# Altium schematic symbol library UWRT.SchLib: 1 symbol
Pins are listed as number, name and electrical type; pins without a type are passive.

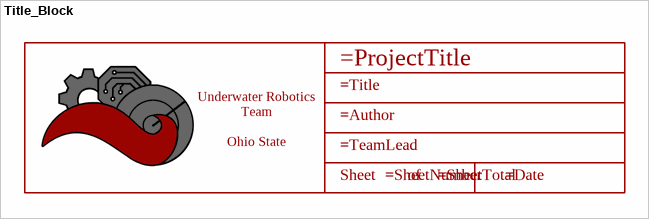
[diagram p0: symbol Title_Block]

## Title_Block
designator *  (value not drawn)  (graphical)
UWRT Schematic Title Block Template / Created June 2021, Dylan Trainor
footprint LOGO (UWRT LOGO)
text: Underwater Robotics Team / Ohio State University; Sheet; of